# Altium schematic symbol library CONN-STD_USB_A_DUAL.SchLib: 1 symbol
Pins are listed as number, name and electrical type; pins without a type are passive.

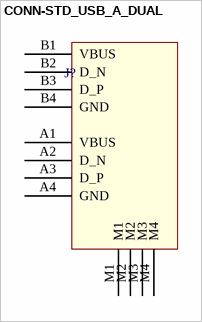
[diagram p0: symbol CONN-STD_USB_A_DUAL]

## CONN-STD_USB_A_DUAL
designator J?  (value not drawn)
pins: A1 VBUS, A2 D_N, A3 D_P, A4 GND, B1 VBUS, B2 D_N, B3 D_P, B4 GND, M1, M2, M3, M4